# EAGLE library part GMM-12088ASB (library E&R_Displays)
32mm 8x8 DOT MATRIX DISPLAY COMMON ANODE
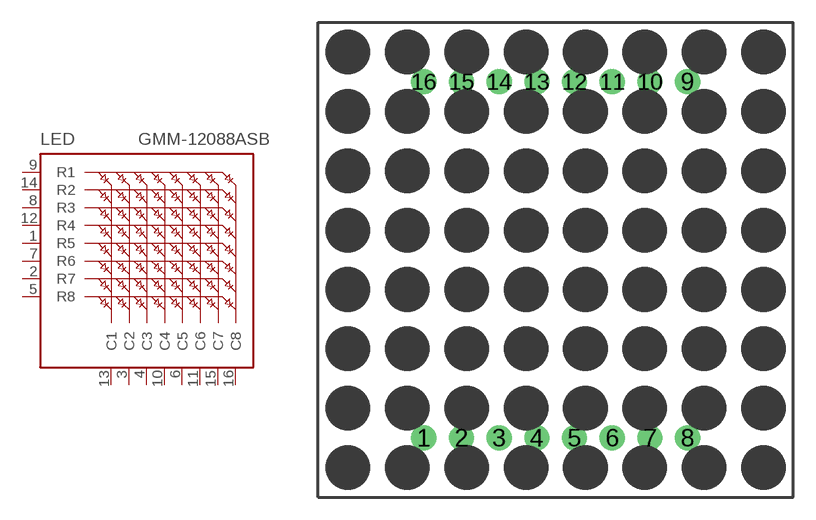
[diagram p0: symbol with the pads of GMM-12088; footprint GMM-12088]

Designator prefix LED

## GMM-12088ASB  [GMM-12088]
1  R5  pas
2  R7  pas
3  C2  pas
4  C3  pas
5  R8  pas
6  C5  pas
7  R6  pas
8  R3  pas
9  R1  pas
10  C4  pas
11  C6  pas
12  R4  pas
13  C1  pas
14  R2  pas
15  C7  pas
16  C8  pas

## Footprint GMM-12088 (pad centres in mm)
32mm 8x8 DOT MATRIX DISPLAY
drill 0.6 pad 1.7: 1 -8.89,-12; 2 -6.35,-12; 3 -3.81,-12; 4 -1.27,-12; 5 1.27,-12; 6 3.81,-12; 7 6.35,-12; 8 8.89,-12; 10 6.35,12; 11 3.81,12; 12 1.27,12; 13 -1.27,12; 14 -3.81,12; 15 -6.35,12; 16 -8.89,12
drill 0.5 pad 1.7: 9 8.89,12